# EAGLE library part PIC16F877AT-I/L (library Microcontroller)
IC MCU 8BIT 14KB FLASH 44PLCC Manufacturer's datasheet <https://ww1.microchip.com/downloads/en/DeviceDoc/39582C.pdf>
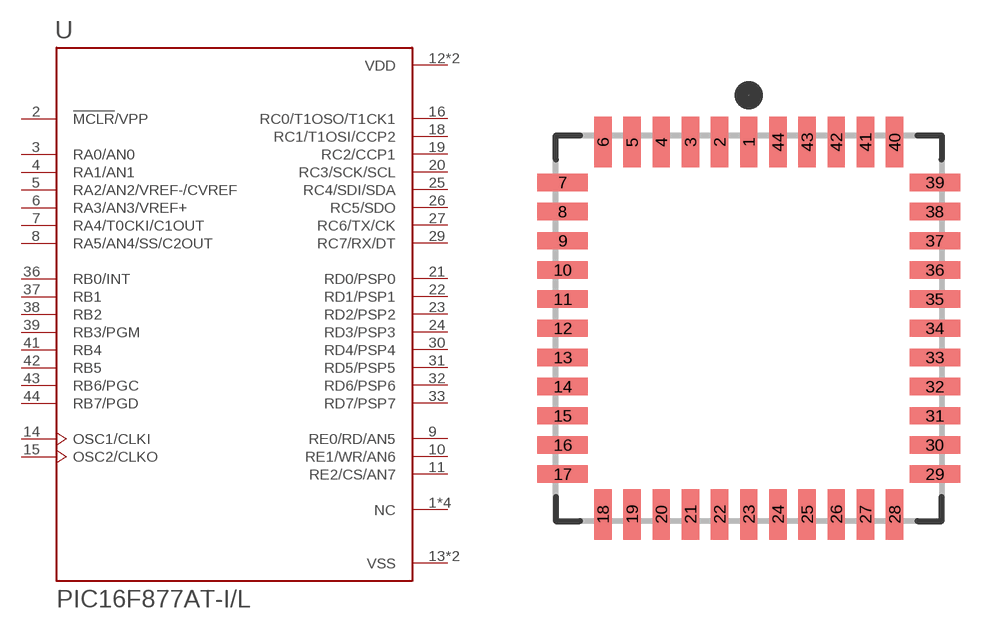
[diagram p7: symbol with the pads of PLCC-44; footprint PLCC-44]

Designator prefix U

## PIC16F877AT-I/L (CREATED_BY: PCBLayout.com; DIGIKEY_PART_NO: PIC16F877AT-I/LTR-ND; MANUFACTURER: Microchip Technology; MPN: PIC16F877AT-I/L; PACKAGE: PLCC44)  [PLCC-44]
1  NC  nc
2  !MCLR!/VPP  pwr
3  RA0/AN0
4  RA1/AN1
5  RA2/AN2/VREF-/CVREF
6  RA3/AN3/VREF+
7  RA4/T0CKI/C1OUT
8  RA5/AN4/SS/C2OUT
9  RE0/RD/AN5
10  RE1/WR/AN6
11  RE2/CS/AN7
12  VDD  pwr
13  VSS  pwr
14  OSC1/CLKI  in
15  OSC2/CLKO  out
16  RC0/T1OSO/T1CK1
17  NC  nc
18  RC1/T1OSI/CCP2
19  RC2/CCP1
20  RC3/SCK/SCL
21  RD0/PSP0
22  RD1/PSP1
23  RD2/PSP2
24  RD3/PSP3
25  RC4/SDI/SDA
26  RC5/SDO
27  RC6/TX/CK
28  NC  nc
29  RC7/RX/DT
30  RD4/PSP4
31  RD5/PSP5
32  RD6/PSP6
33  RD7/PSP7
34  VSS  pwr
35  VDD  pwr
36  RB0/INT
37  RB1
38  RB2
39  RB3/PGM
40  NC  nc
41  RB4
42  RB5
43  RB6/PGC
44  RB7/PGD

## Footprint PLCC-44 (pad centres in mm)
PLASTIC LEADED CHIP CARRIER square
smd 0.76 x 2.2: 1 0,8.1; 2 -1.27,8.1; 3 -2.54,8.1; 4 -3.81,8.1; 5 -5.08,8.1; 6 -6.35,8.1; 18 -6.35,-8.1; 19 -5.08,-8.1; 20 -3.81,-8.1; 21 -2.54,-8.1; 22 -1.27,-8.1; 23 0,-8.1; 24 1.27,-8.1; 25 2.54,-8.1; 26 3.81,-8.1; 27 5.08,-8.1; 28 6.35,-8.1; 40 6.35,8.1; 41 5.08,8.1; 42 3.81,8.1; 43 2.54,8.1; 44 1.27,8.1
smd 2.2 x 0.76: 7 -8.1,6.35; 8 -8.1,5.08; 9 -8.1,3.81; 10 -8.1,2.54; 11 -8.1,1.27; 12 -8.1,0; 13 -8.1,-1.27; 14 -8.1,-2.54; 15 -8.1,-3.81; 16 -8.1,-5.08; 17 -8.1,-6.35; 29 8.1,-6.35; 30 8.1,-5.08; 31 8.1,-3.81; 32 8.1,-2.54; 33 8.1,-1.27; 34 8.1,0; 35 8.1,1.27; 36 8.1,2.54; 37 8.1,3.81; 38 8.1,5.08; 39 8.1,6.35